# Altium schematic symbol library SCH - INTERFACE - ST STUSB4500 QFN.SchLib: 1 symbol
Pins are listed as number, name and electrical type; pins without a type are passive.

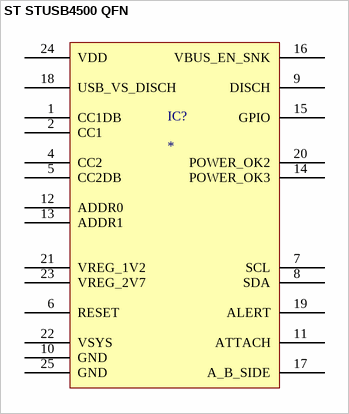
[diagram p0: symbol ST STUSB4500 QFN]

## ST STUSB4500 QFN
designator IC?
pins: 1 CC1DB, 2 CC1, 4 CC2, 5 CC2DB, 6 RESET, 7 SCL, 8 SDA, 9 DISCH, 10 GND, 11 ATTACH, 12 ADDR0, 13 ADDR1, 14 POWER_OK3, 15 GPIO, 16 VBUS_EN_SNK, 17 A_B_SIDE, 18 USB_VS_DISCH, 19 ALERT, 20 POWER_OK2, 21 VREG_1V2, 22 VSYS, 23 VREG_2V7, 24 VDD, 25 GND